# Altium footprint library INF-PG-TO252-5-1L.PcbLib: 1 footprints
Each footprint in its own frame and in the unit in brackets; x right, y up, seen from the top. Pads: shape width x height; smd on the part's side, far side on the other; paste and mask are expansions set on the pad; w line width, h text height; cw(c..) or ccw(c..) is an arc to the next point about the centre after c.
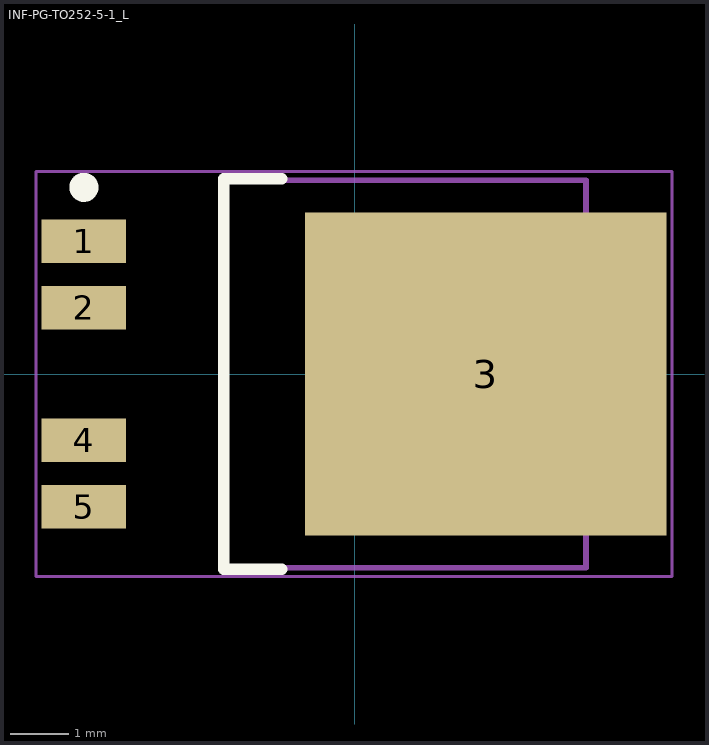
[diagram p0: the footprint, top view; thin cyan lines are the x and y axes]

## INF-PG-TO252-5-1_L [mm] "DPAK, 5-Leads, Body 6.5x6.12mm, Pitch 1.14mm, IPC High Density"
height 2.35
pads (5):
  rect 1.45x0.75 smd: 1(-4.65,2.28) 2(-4.65,1.14) 4(-4.65,-1.14) 5(-4.65,-2.28)
  rect 6.2x5.55 smd: 3(2.25,0)
Top Overlay:
  circle w0.25: c-4.65,3.205 r0.125
  lines w0.2: -1.25,-3.35 -2.25,-3.35 -2.25,3.35 -1.25,3.35
Mechanical 13:
  lines w0.1: -2.25,-3.325 3.97,-3.325 3.97,3.325 -2.25,3.325 -2.25,-3.325
Mechanical 15:
  lines w0.05: -5.475,-3.475 5.45,-3.475 5.45,3.475 -5.475,3.475 -5.475,-3.475
  lines w0.1: -0.5,0 0.5,0 ; 0,-0.5 0,0.5
3D body: height 2.35, standoff 0, extent -2.25,-3.325 3.97,3.325